# Altium footprint library opo_general.PcbLib: 43 footprints (part 1 of 3)
Each footprint in its own frame and in the unit in brackets; x right, y up, seen from the top. Pads: shape width x height; smd on the part's side, far side on the other; paste and mask are expansions set on the pad; w line width, h text height; cw(c..) or ccw(c..) is an arc to the next point about the centre after c.
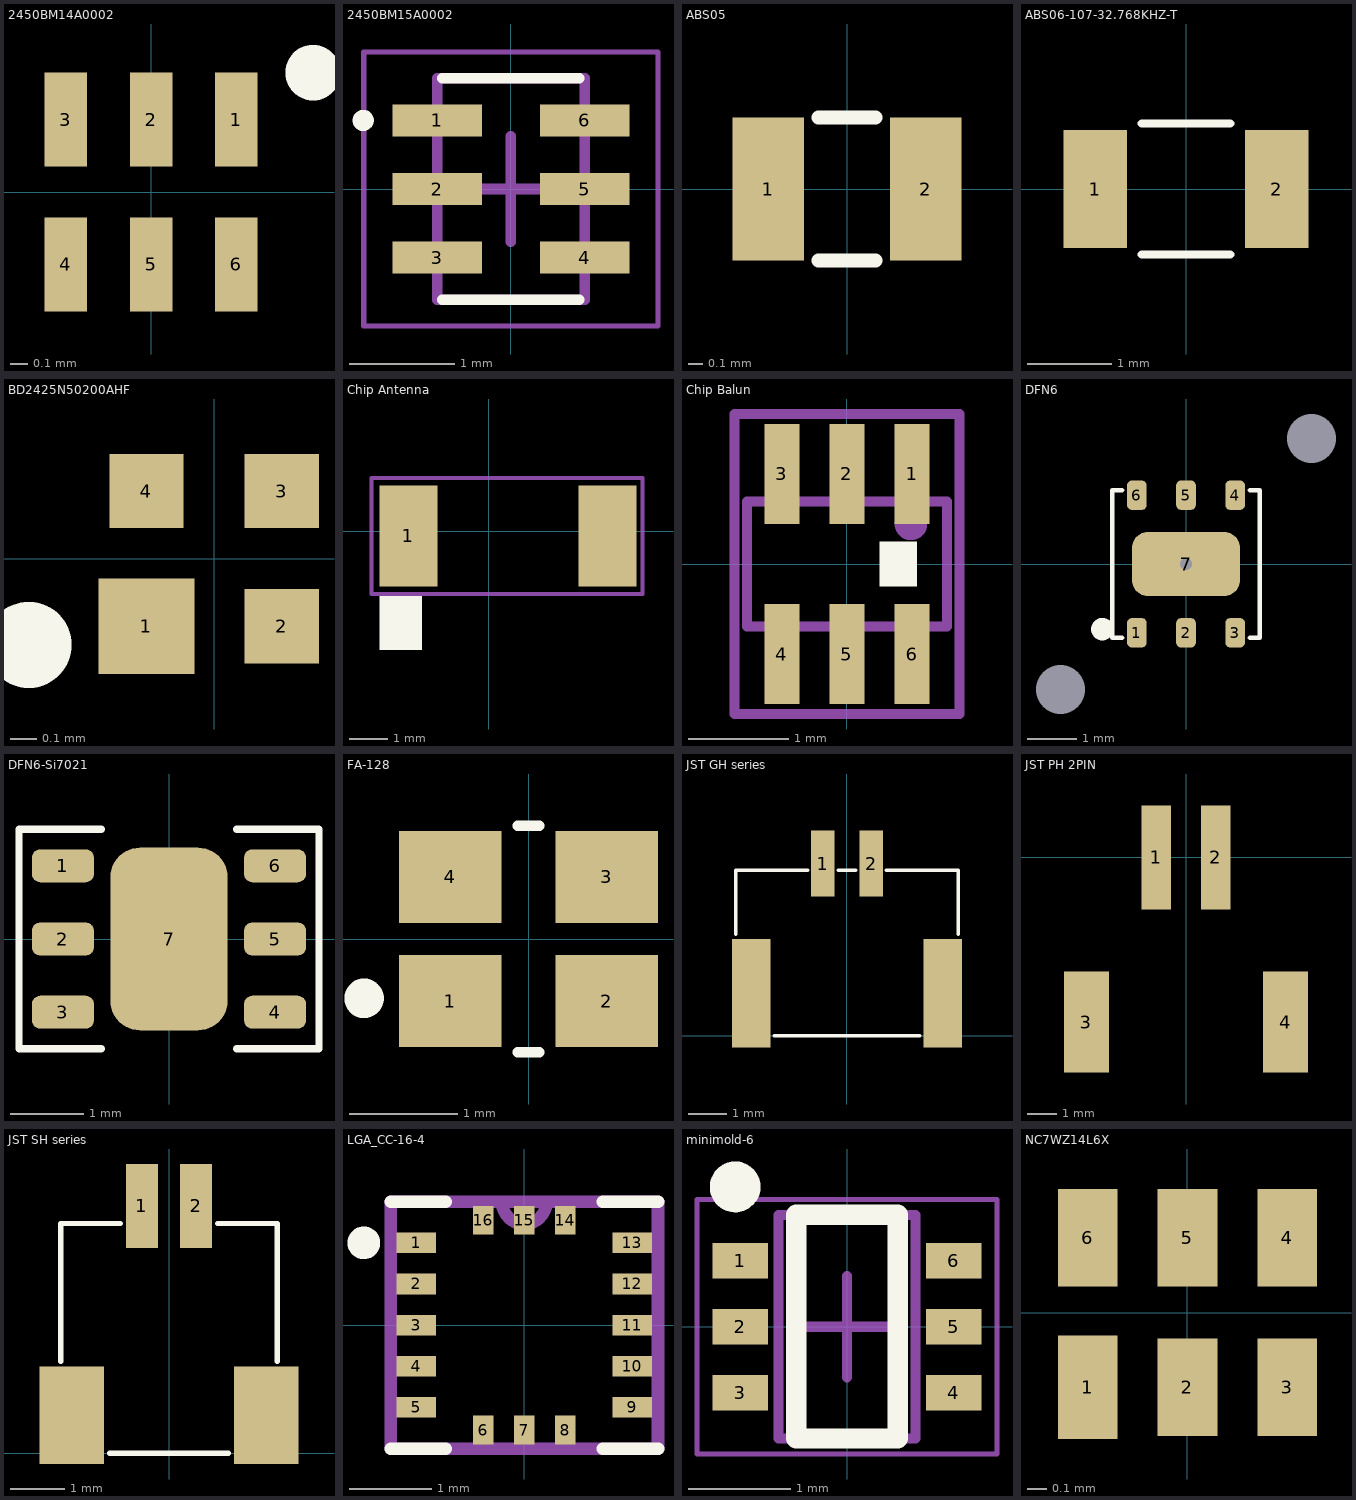
[diagram p0: the footprints below, top view; thin cyan lines are the x and y axes]

## 2450BM14A0002 [mm]
pads (6):
  rect 0.25x0.55 smd: 1(0.5,0.425) 2(0,0.425) 3(-0.5,0.425) 4(-0.5,-0.425) 5(0,-0.425) 6(0.5,-0.425)
Top Overlay:
  circle w0.254: c0.95,0.7 r0.035
3D body: height 0.6, standoff 0, extent -0.8,-0.4 0.8,0.4

## 2450BM15A0002 [mm] "Chip Array, Flat, 6-Leads, Pitch 0.65mm,  Body 2.00x1.25mm,  IPC Medium Density"
height 0.8
pads (6):
  rect 0.85x0.3 smd: 1(-0.7,0.65) 2(-0.7,0) 3(-0.7,-0.65) 4(0.7,-0.65) 5(0.7,0) 6(0.7,0.65)
Top Overlay:
  circle w0.1: c-1.4,0.65 r0.05
  lines w0.1: -0.65,-1.05 0.65,-1.05 ; -0.65,1.05 0.65,1.05
Mechanical 13:
  lines w0.1: -0.7,-1.05 0.7,-1.05 0.7,1.05 -0.7,1.05 -0.7,-1.05
Mechanical 15:
  lines w0.05: -1.395,-1.3 1.395,-1.3 1.395,1.3 -1.395,1.3 -1.395,-1.3
  lines w0.1: -0.5,0 0.5,0 ; 0,-0.5 0,0.5
3D body: height 0.8, standoff 0, extent -0.675,-1.05 0.675,1.05
3D body: height 0.81, standoff 0.8, extent -0.375,0.375 0.375,0.95

## ABS05 [mm] "ABS05 Crystal"
pads (2):
  rect 0.5x1 smd: 1(-0.55,0) 2(0.55,0)
Top Overlay:
  lines w0.1: -0.2,-0.5 0.2,-0.5 ; -0.2,0.5 0.2,0.5
3D body: height 0.45, standoff 0, extent -0.8,-0.5 0.8,0.5
3D body: height 0.5, standoff 0.45, extent -0.725,-0.4 0.725,0.425

## ABS06-107-32.768KHZ-T [mm]
pads (2):
  rect 0.75x1.4 smd: 1(-1.075,0) 2(1.075,0)
Top Overlay:
  lines w0.1: -0.525,-0.775 0.525,-0.775 ; -0.525,0.775 0.525,0.775

## BD2425N50200AHF [mm] "BD2425N50200AHF"
pads (4):
  rect 0.36x0.36 smd: 1(-0.255,-0.255)
  rect 0.28x0.28 smd: 2(0.255,-0.255) 3(0.255,0.255) 4(-0.255,0.255)
Top Overlay:
  circle w0.254: c-0.7,-0.325 r0.035
3D body: height 0.56, standoff 0, extent -0.5,-0.5 0.5,0.5

## Chip Antenna [mm] "FR05-S1-N-0-102"
pads (2):
  rect 1.5x2.6 smd: 1(-2.075,-0.125) ""(3.075,-0.125)
Top Overlay:
  rectangle: -2.825,-3.075 -1.725,-1.675
Mechanical 13:
  lines w0.1: -3.025,-1.625 -3.025,1.375 3.975,1.375 3.975,-1.625 -3.025,-1.625
Mechanical 15:
  lines w0.1: -3.025,-1.625 -3.025,1.375 3.975,1.375 3.975,-1.625 -3.025,-1.625
3D body: height 2, standoff 0, extent -3.025,-1.625 3.975,1.375

## Chip Balun [mm] "Chip Balun 2.4 GHz"
pads (6):
  rect 0.35x1 smd: 1(0.65,0.9) 2(0,0.9) 3(-0.65,0.9) 4(-0.65,-0.9) 5(0,-0.9) 6(0.65,-0.9)
Top Overlay:
  rectangle: 0.325,-0.225 0.7,0.225
Mechanical 13:
  circle w0.254: c0.64,0.4 r0.035
  lines w0.1: -1,-0.625 1,-0.625 1,0.625 -1,0.625 -1,-0.625
Mechanical 15:
  lines w0.1: -1.125,-1.5 1.125,-1.5 1.125,1.5 -1.125,1.5 -1.125,-1.5
3D body: height 0.7, standoff 0, extent -1,-0.625 1,0.625

## DFN6 [mm]
pads (9):
  rrect50% 0.4x0.6 smd: 1(-1,-1.4) 2(0,-1.4) 3(1,-1.4) 4(1,1.4) 5(0,1.4) 6(-1,1.4)
  rrect50% 2.2x1.3 smd mask+0.1: 7(0,0)
  rect 0x0 hole 1: ""(-2.55,-2.55) ""(2.55,2.55)
via 0,0 diameter 0.508 hole 0.254
Top Overlay:
  circle w0.254: c-1.7,-1.325 r0.1
  lines w0.1: -1.3,-1.5 -1.5,-1.5 -1.5,1.5 -1.3,1.5 ; 1.3,-1.5 1.5,-1.5 1.5,1.5 1.3,1.5
3D body: height 1.1, standoff 0, extent 0.3,-1 1.1,1
3D body: height 1.1, standoff 0, extent -1.5,-1.5 1.5,1.5

## DFN6-Si7021 [mm]
pads (7):
  rrect50% 0.85x0.45 smd: 1(-1.45,1) 2(-1.45,0) 3(-1.45,-1) 4(1.45,-1) 5(1.45,0) 6(1.45,1)
  rrect50% 1.6x2.5 smd: 7(0,0)
Top Overlay:
  lines w0.1: -0.925,-1.5 -2.05,-1.5 -2.05,1.5 -0.925,1.5 ; 0.925,-1.5 2.05,-1.5 2.05,1.5 0.925,1.5
3D body: height 1.21, standoff 0.75, extent -1.425,-1.425 1.425,1.425
3D body: height 0.75, standoff 0, extent -1.5,-1.5 1.5,1.5

## FA-128 [mm]
pads (4):
  rect 0.95x0.85 smd: 1(-0.725,-0.575) 2(0.725,-0.575) 3(0.725,0.575) 4(-0.725,0.575)
Top Overlay:
  circle w0.254: c-1.525,-0.55 r0.056
  lines w0.1: -0.1,-1.05 0.1,-1.05 ; -0.1,1.05 0.1,1.05
3D body: height 0.5, standoff 0, extent -1,-0.8 1,0.8

## JST GH series [mm] "JST GH series, 2 positions"
pads (4):
  rect 0.6x1.7 smd: 1(-0.625,4.45) 2(0.625,4.45)
  rect 1x2.8 smd: ""(-2.475,1.1) ""(2.475,1.1)
Top Overlay:
  lines w0.1: -2.875,2.625 -2.875,4.275 -1.025,4.275 ; -1.875,0 1.875,0 ; -0.225,4.275 0.225,4.275 ; 1.025,4.275 2.875,4.275 2.875,2.625
3D body: height 4.05, standoff 0, extent -2.875,0 2.875,4.25

## JST PH 2PIN [mm]
pads (4):
  rect 1x3.5 smd: 1(-1,0) 2(1,0)
  rect 1.5x3.4 smd: 3(-3.35,-5.55) 4(3.35,-5.55)

## JST SH series [mm] "JST SH series, 2 positions"
pads (4):
  rect 0.6x1.55 smd: 1(-0.5,4.575) 2(0.5,4.575)
  rect 1.2x1.8 smd: ""(-1.8,0.7) ""(1.8,0.7)
Top Overlay:
  lines w0.1: -2,1.7 -2,4.25 -0.9,4.25 ; -1.1,0 1.1,0 ; 0.9,4.25 2,4.25 2,1.7
3D body: height 2.95, standoff 0, extent -2,0 2,4.25

## LGA_CC-16-4 [mm]
pads (16):
  rect 0.475x0.25 smd: 1(-1.313,1) 2(-1.313,0.5) 3(-1.313,0) 4(-1.313,-0.5) 5(-1.313,-1) 9(1.313,-1) 10(1.313,-0.5) 11(1.313,0) 12(1.313,0.5) 13(1.313,1)
  rect 0.25x0.35 smd: 6(-0.5,-1.275) 7(0,-1.275) 8(0.5,-1.275) 14(0.5,1.275) 15(0,1.275) 16(-0.5,1.275)
Top Overlay:
  circle w0.254: c-1.95,1 r0.071
  lines w0.152: -1.625,-1.5 -0.954,-1.5 ; -1.625,1.5 -0.954,1.5 ; 0.954,-1.5 1.625,-1.5 ; 0.954,1.5 1.625,1.5
Mechanical 1:
  lines w0: -0.271,1.5 ccw(c0,1.5) 0.271,1.5 ; -1.625,-1.5 -1.625,1.5 1.625,1.5 1.625,-1.5 -1.625,-1.5
  lines w0.152: -0.271,1.5 ccw(c0,1.5) 0.271,1.5 ; -1.625,-1.5 -1.625,1.5 1.625,1.5 1.625,-1.5 -1.625,-1.5
3D body: height 1.15, standoff 0, extent -1.625,-1.5 1.625,1.5

## minimold-6 [mm] "SOTFL, 6-Leads, Body 2.00x2.10mm, Pitch 0.65mm, IPC Medium Density"
height 1
pads (6):
  rect 0.55x0.35 smd: 1(-1.05,0.65) 2(-1.05,0) 3(-1.05,-0.65) 4(1.05,-0.65) 5(1.05,0) 6(1.05,0.65)
Top Overlay:
  circle w0.25: c-1.1,1.375 r0.125
  lines w0.2: -0.5,-1.1 0.5,-1.1 0.5,1.1 -0.5,1.1 -0.5,-1.1
Mechanical 13:
  lines w0.1: -0.675,-1.1 -0.675,1.1 0.675,1.1 0.675,-1.1 -0.675,-1.1
Mechanical 15:
  lines w0.05: -1.475,-1.25 -1.475,1.25 1.475,1.25 1.475,-1.25 -1.475,-1.25
  lines w0.1: -0.5,0 0.5,0 ; 0,-0.5 0,0.5
3D body: height 1, standoff 0, extent -0.675,-1.1 0.675,1.1

## NC7WZ14L6X [mm]
pads (6):
  rect 0.3x0.52 smd: 1(-0.5,-0.375)
  rect 0.3x0.49 smd: 2(0,-0.375) 3(0.5,-0.375) 4(0.5,0.375) 5(0,0.375) 6(-0.5,0.375)
3D body: height 0.55, standoff 0.05, extent -0.725,-0.5 0.725,0.5